# EAGLE library part S25FL008K0XMFI041 (library SPANSION)
8-Mbit CMOS 3.0 Volt Flash Memory
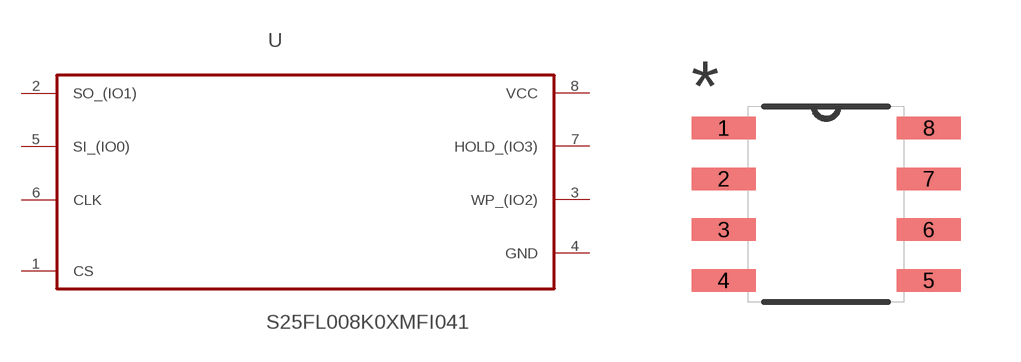
[diagram p0: symbol with the pads of SOIC127P600X175-8N; footprint SOIC127P600X175-8N]

Designator prefix U

## S25FL008K0XMFI041 (DESCRIPTION: 8-Mbit CMOS 3.0 Volt Flash Memory; MPN: S25FL008K0XMFI041; OC_FARNELL: 1861627; OC_NEWARK: 27T2970; PACKAGE: SOIC-8; SUPPLIER: SPANSION)  [SOIC127P600X175-8N]
1  CS  in
2  SO_(IO1)  out
3  WP_(IO2)
4  GND  pas
5  SI_(IO0)
6  CLK  in
7  HOLD_(IO3)
8  VCC  pwr

## Footprint SOIC127P600X175-8N (pad centres in mm)
smd 1.6 x 0.559: 1 -2.565,1.905; 2 -2.565,0.635; 3 -2.565,-0.635; 4 -2.565,-1.905; 5 2.565,-1.905; 6 2.565,-0.635; 7 2.565,0.635; 8 2.565,1.905